# Altium footprint library FC68125.PcbLib: 1 footprints
Each footprint in its own frame and in the unit in brackets; x right, y up, seen from the top. Pads: shape width x height; smd on the part's side, far side on the other; paste and mask are expansions set on the pad; w line width, h text height; cw(c..) or ccw(c..) is an arc to the next point about the centre after c.
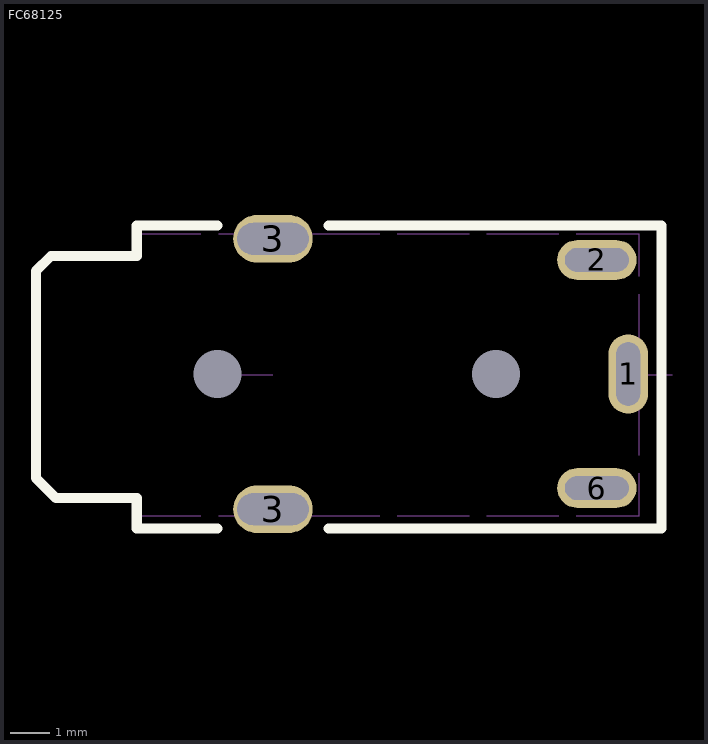
[diagram p0: the footprint, top view; thin cyan lines are the x and y axes]

## FC68125 [mm]
pads (7):
  oval 1x2 hole 0.6 slot 1.6 at 90 deg: 1(34.214,14.046)
  oval 2x1 hole 0.6 slot 1.6 at 0 deg: 2(33.426,16.916) 6(33.426,11.176)
  oval 2x1.2 hole 0.8 slot 1.8 at 0 deg: 3(25.273,10.643) 3(25.273,17.45)
  round 0 hole 1.2: ""(23.876,14.046) ""(30.886,14.046)
Top Overlay:
  lines w0.254: 23.876,10.16 21.844,10.16 21.844,10.922 19.812,10.922 19.304,11.43 19.304,16.637 19.685,17.018 21.844,17.018 21.844,17.78 23.876,17.78 ; 26.67,10.16 35.052,10.16 35.052,17.78 26.67,17.78
Mechanical 2:
  circle w0.013: c30.891,14.035 r0.503
  circle w0.013: c23.891,14.035 r0.503
  lines w0.013: 19.381,12.675 19.381,11.326 19.397,11.232 19.436,11.147 19.506,11.084 19.592,11.038 19.685,11.03 21.884,11.03 21.884,10.476 23.458,10.476 ; 19.381,13.127 19.381,14.927 ; 19.381,15.379 19.381,16.728 19.397,16.821 19.436,16.907 19.506,16.97 19.592,17.016 19.685,17.032 21.884,17.032 21.884,17.578 23.458,17.578 ; 23.676,14.031 25.267,14.031 ; 23.887,13.945 23.887,14.109 ; 23.91,10.476 25.711,10.476 ; 23.91,17.578 25.711,17.578 ; 24.885,10.624 25.68,10.624 ; 24.885,17.437 25.68,17.437 ; 25.282,10.227 25.282,11.022 ; 25.282,17.359 25.282,17.515 ; 26.163,10.476 27.964,10.476 ; 26.163,17.578 27.964,17.578 ; 28.408,10.476 30.209,10.476 ; 28.408,17.578 30.209,17.578 ; 30.661,10.476 32.462,10.476 ; 30.661,17.578 32.462,17.578 ; 30.669,14.031 30.981,14.031 ; 30.887,13.945 30.887,14.109 ; 32.914,10.476 34.488,10.476 34.488,11.552 ; 32.914,17.578 34.488,17.578 34.488,16.502 ; 33.358,11.154 33.522,11.154 ; 33.358,16.907 33.522,16.907 ; 33.436,11.069 33.436,11.232 ; 33.436,16.821 33.436,16.985 ; 33.841,14.031 35.322,14.031 ; 34.215,13.633 34.215,14.428 ; 34.488,12.004 34.488,13.805 ; 34.488,14.257 34.488,16.058 ; 24.534,10.227 26.038,10.227 26.038,11.03 24.534,11.03 24.534,10.227 ; 24.534,17.04 26.038,17.04 26.038,17.835 24.534,17.835 24.534,17.04 ; 32.688,10.85 34.192,10.85 34.192,11.451 32.688,11.451 32.688,10.85 ; 32.688,16.603 34.192,16.603 34.192,17.203 32.688,17.203 32.688,16.603 ; 33.911,13.275 33.911,14.779 34.512,14.779 34.512,13.275 33.911,13.275
3D body "FC68125.step": height 6.2, standoff -2.6, extent 19.374,10.312 34.474,17.708